# Altium schematic symbol library NodeIoT.SCHLIB: 93 symbols (part 2 of 2)
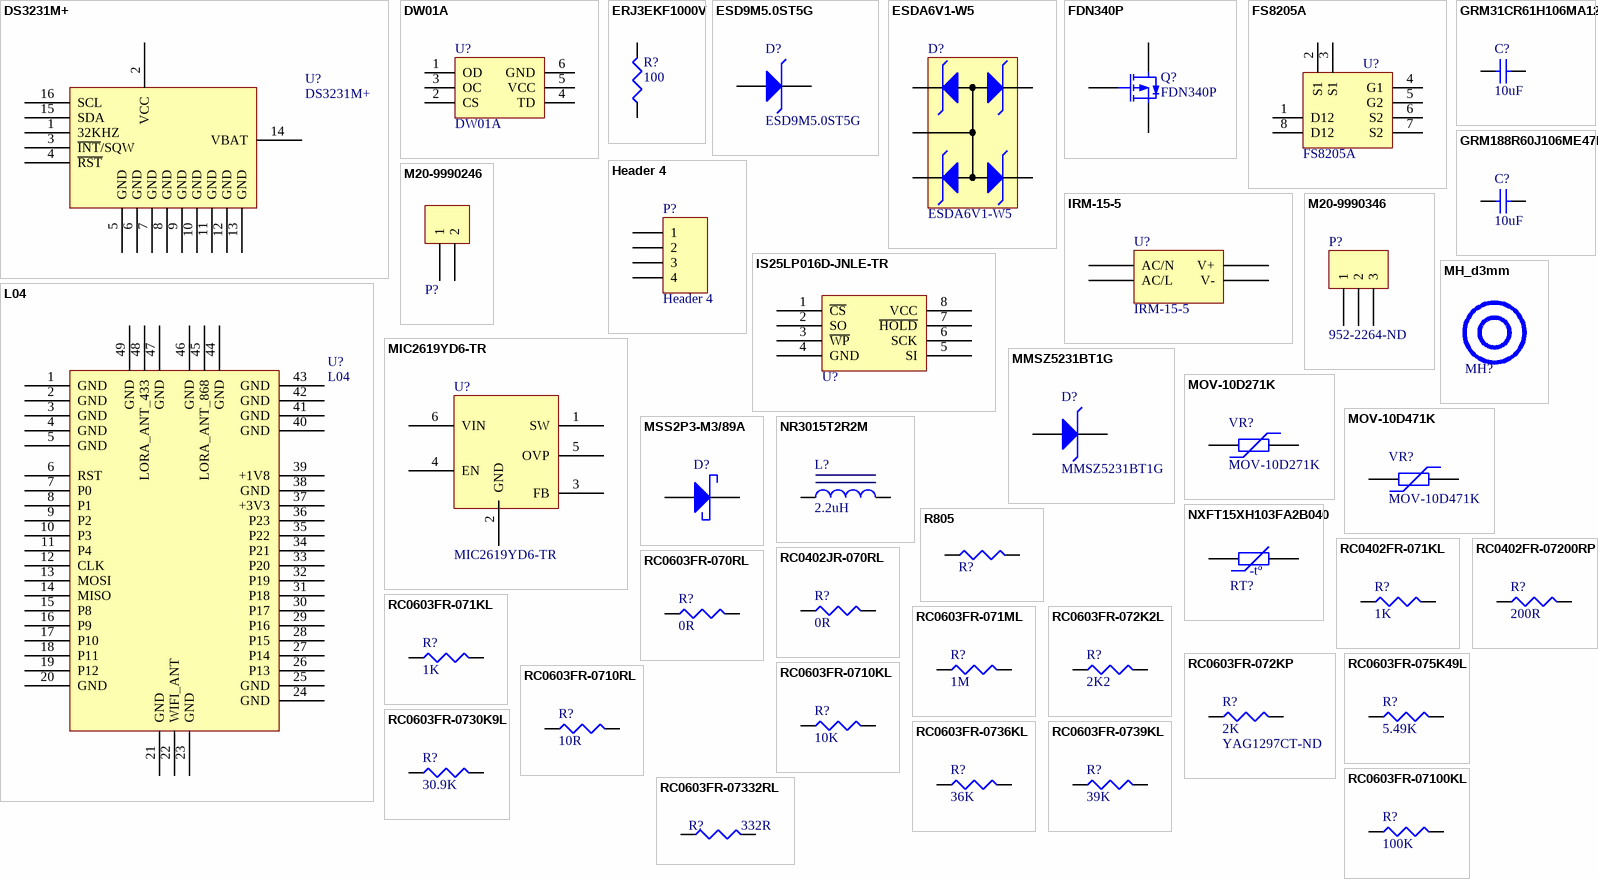
[diagram p3: symbols DS3231M+ to RC0603FR-07332RL]

## ERJ3EKF1000V
designator R?, comment 100
RES SMD 100 OHM 1% 1/10W 0603; Manufacturer: Panasonic; Manufacturer Part Number: ERJ3EKF1000V; Resistance: 100R; Temperature Coefficient: 100ppm/°C; Power Rating: 100mW; Voltage Rating: 75V; Supplier 1: Digi-Key; Stock 1: 5516822; Pricing 1: 1 = 0,100000, 10 = 0,065000, 100 = 0,026400, 1000 = 0,011860, 2500 = 0,010290 (USD); RoHS: Yes; Mount: Surface Mount; Case/Package: 0603; Number of Pins: 2; Weight: 7.1E-05oz; Case Code (Imperial): 0603; Case Code (Metric): 1608; Contact Plating: Tin; Min Operating Temperature: -55°C; Max Operating Temperature: 155°C; Tolerance: 1%; Packaging: Tape and Reel; Composition: Thick Film; Voltage Rating (DC): 75V; Termination: SMD/SMT; Military Standard: Not; Package Quantity: 1; Number of Terminations: 2; Max Power Dissipation: 100mW; Features: Automotive AEC-Q200; Length: 1.6mm; Height: 0.022inch; Width: 0.8mm; Depth: 0.8mm; Radiation Hardening: No; REACH SVHC: No SVHC; Lead Free: Lead Free; ComponentLink1URL: https://datasheet.ciiva.com/34303/1987450-34303565.pdf?src-supplier=Jameco; ComponentLink1Description: https://datasheet.ciiva.com/34303/1987450-34303565.pdf?src-supplier=Jameco; ComponentLink2URL: https://datasheet.ciiva.com/9186/aoa0000ce2-9186725.pdf?src-supplier=Avnet; ComponentLink2Description: https://datasheet.ciiva.com/9186/aoa0000ce2-9186725.pdf?src-supplier=Avnet; ComponentLink3URL: https://datasheet.ciiva.com/16765/70260748-16765766.pdf?src-supplier=Allied+Electronics; ComponentLink3Description: https://datasheet.ciiva.com/16765/70260748-16765766.pdf?src-supplier=Allied+Electronics; ComponentLink4URL: https://datasheet.ciiva.com/46372/1678782-46372726.pdf?src-supplier=Element14; ComponentLink4Description: https://datasheet.ciiva.com/46372/1678782-46372726.pdf?src-supplier=Element14; ComponentLink5URL: https://datasheet.ciiva.com/46372/1678782-46372727.pdf?src-supplier=Element14; ComponentLink5Description: https://datasheet.ciiva.com/46372/1678782-46372727.pdf?src-supplier=Element14; ComponentLink6URL: https://datasheet.ciiva.com/7830/aoa0000ce2-7830728.pdf?src-supplier=Element14; ComponentLink6Description: https://datasheet.ciiva.com/7830/aoa0000ce2-7830728.pdf?src-supplier=Element14; ComponentLink7URL: https://datasheet.ciiva.com/24159/aoa0000ce2-24159753.pdf?src-supplier=Mouser; ComponentLink7Description: https://datasheet.ciiva.com/24159/aoa0000ce2-24159753.pdf?src-supplier=Mouser; ComponentLink8URL: https://datasheet.ciiva.com/30088/aoa0000ce2-30088649.pdf?src-supplier=Onlinecomponents.com; ComponentLink8Description: https://datasheet.ciiva.com/30088/aoa0000ce2-30088649.pdf?src-supplier=Onlinecomponents.com; ComponentLink9URL: https://datasheet.ciiva.com/16762/70260748-16762666.pdf?src-supplier=Allied+Electronics; ComponentLink9Description: https://datasheet.ciiva.com/16762/70260748-16762666.pdf?src-supplier=Allied+Electronics; ComponentLink10URL: https://datasheet.ciiva.com/48530/aoa0000ce2-48530986.pdf?src-supplier=Avnet; ComponentLink10Description: https://datasheet.ciiva.com/48530/aoa0000ce2-48530986.pdf?src-supplier=Avnet; ComponentLink11URL: https://datasheet.ciiva.com/17207/aoa0000ce2-17207983.pdf?src-supplier=Avnet+Europe; ComponentLink11Description: https://datasheet.ciiva.com/17207/aoa0000ce2-17207983.pdf?src-supplier=Avnet+Europe; ComponentLink12URL: https://datasheet.ciiva.com/22667/1678782-22667887.pdf?src-supplier=Element14; ComponentLink12Description: https://datasheet.ciiva.com/22667/1678782-22667887.pdf?src-supplier=Element14; Supplier Part Number 1: P100HDKR-ND
footprint R603
pins: 1, 2

## ESD9M5.0ST5G
designator D?
ESD Suppressor TVS ±15kV Automotive 2-Pin SOD-923 T/R; Manufacturer: ON Semiconductor; Capacitance Value: 2.5pF; Clamping Voltage: 9.8V; Configuration: Single; Direction Type: Uni-Directional; Leakage Current: 1uA; Number of  Elements: 1; Product Depth (mm): 0.6 mm; Product Height (mm): 0.37 mm; Product Length (mm): 0.8 mm; Rad Hardened: No; Reverse Breakdown Voltage: 5.8 V; Reverse Stand-off Voltage: 5 V; Test Current (It): 1 mA; Working Voltage: 5V; Supplier 1: Digi-Key; Supplier Part Number 1: ESD9M5.0ST5GOSCT-ND; Manufacturer Part Number: ESD9M5.0ST5G; Stock 1: 15458; Pricing 1: 1=0.35, 10=0.26, 100=0.147, 500=0.0973, 1000=0.0746 (USD); Clamping Voltage (Max): 9.8V; Leakage Current (Max): 1uA; Mounting: Surface Mount; Mounting Style: Surface Mount; Operating Temp Range: -55C to 150C; Operating Temperature Classification: Military; Operating Temperature Max Deg. C: 150C; Operating Temperature Min Deg. C: -55C; Package / Case: SOD-923; Packaging: Tape and Reel; Pin Count: 2; Polarity: Uni-Directional; Suppressor Type: TVS; Working Voltage (Max): 5V; ComponentLink1URL: https://datasheet.ciiva.com/25958/esd9m5-0s-d-25958450.pdf; ComponentLink1Description: https://datasheet.ciiva.com/25958/esd9m5-0s-d-25958450.pdf; Category: Discrete Semiconductor
footprint SOD-923
pins: 1 A, 2 K

## ESDA6V1-W5
designator D?
TVS DIODE 3VWM SOT3235; Manufacturer: STMicroelectronics; Capacitance Value: 90pF; Configuration: Quad; Leakage Current (Max): 1uA; Direction Type: Uni-Directional; Number of  Elements: 4; Peak Pulse Power Dissipation: 150 W; Reverse Breakdown Voltage: 6.1 V; Reverse Stand-off Voltage: 3 V; Test Current (It): 1 mA; Rad Hardened: No; Product Length (mm): 2.2 mm; Product Depth (mm): 1.35 mm; Product Height (mm): 1 mm; Working Voltage (Max): 3V; Supplier 1: Digi-Key; Supplier Part Number 1: 497-7228-1-ND; Manufacturer Part Number: ESDA6V1-W5; Stock 1: 11893; Pricing 1: 1=0.46, 10=0.346, 100=0.2153, 500=0.1473, 1000=0.1133 (USD); Mounting: Surface Mount; Leakage Current: 1uA; Operating Temp Range: -40C to 125C; Package Type: SOT-323; Operating Temperature Classification: Automotive; Mounting Style: Surface Mount; Operating Temperature Max Deg. C: 125C; Operating Temperature Min Deg. C: -40C; Package / Case: SOT-323; Packaging: Tape and Reel; Pin Count: 5; Polarity: Uni-Directional; Suppressor Type: TVS; Working Voltage: 3V; ComponentLink1URL: https://datasheet.ciiva.com/15143/getdatasheetpartid-134557-15143650.pdf; ComponentLink1Description: https://datasheet.ciiva.com/15143/getdatasheetpartid-134557-15143650.pdf; Category: Discrete Semiconductor
footprint SOT-323-5L
pins: 1, 2, 3, 4, 5

## FDN340P
designator Q?
MOSFET P-CH 20V 2A SSOT3; Manufacturer: Fairchild/ON Semiconductor; FET Type: P-Channel; Current - Continuous Drain (Id) @ 25°C: 2A (Ta); Drive Voltage (Max Rds On,  Min Rds On): 2.5V, 4.5V; Vgs(th) (Max) @ Id: 1.5V @ 250µA; Gate Charge (Qg) (Max) @ Vgs: 10nC @ 4.5V; Input Capacitance (Ciss) (Max) @ Vds: 779pF @ 10V; Vgs (Max): ±8V; Power Dissipation (Max): 500mW (Ta); Rds On (Max) @ Id, Vgs: 70 mOhm @ 2A, 4.5V; Supplier 1: Digi-Key; Supplier Part Number 1: FDN340PCT-ND; Manufacturer Part Number: FDN340P; RoHS: RoHS Compliant; Category: Discrete Semiconductor Products; Stock 1: 497; Pricing 1: 1=0.41, 10=0.331, 100=0.2253, 500=0.16896, 1000=0.12672 (USD); Packaging: Cut Tape (CT); Part Status: Active; Technology: MOSFET (Metal Oxide); Drain to Source Voltage (Vdss): 20V; FET Feature: -; Operating Temperature: -55°C ~ 150°C (TJ); Mounting Type: Surface Mount; Supplier Device Package: SuperSOT-3; Package / Case: TO-236-3, SC-59, SOT-23-3; ComponentLink1URL: https://www.fairchildsemi.com/datasheets/FD/FDN340P.pdf; ComponentLink1Description: https://www.fairchildsemi.com/datasheets/FD/FDN340P.pdf
footprint SOT-23  Mosfet P (SOT-23 (TO-236))
pins: D, G, S

## FS8205A
designator U?
Dual N-Channel Enhancement Mode Power MOSFET; ComponentLink1Description: LCSC; ComponentLink1URL: https://lcsc.com/product-detail/MOSFET_Fortune-Semicon-FS8205A_C16052.html; Manufacturer Part Number: FS8205A
footprint TSOP_8_65 (TSOP, 8-Leads, Body 2,93x4,40mm, Pitch 0,65mm, IPC Medium Density)
pins: 1 D12, 2 S1, 3 S1, 4 G1, 5 G2, 6 S2, 7 S2, 8 D12

## GRM31CR61H106MA12L
designator C?, comment 10uF
CAP CER 10UF 35V X7R 1206; Manufacturer: Taiyo Yuden; Manufacturer Part Number: GMK316AB7106KL-TR; Tolerance: ±10%; Notification: Current market demand for these product types have resulted in fluctuating and extending lead times. Lead times may differ.; Supplier 1: Digi-Key; RoHS: RoHS Compliant; Category: Capacitors; Stock 1: 822030; Pricing 1: 1=0.54, 10=0.38, 100=0.25, 500=0.1852, 1000=0.15742 (USD); Packaging: Cut Tape (CT); Part Status: Active; Voltage - Rated: 35V; Temperature Coefficient: X7R; Operating Temperature: -55°C ~ 125°C; Features: -; Ratings: -; Applications: General Purpose; Mounting Type: Surface Mount, MLCC; Package / Case: 1206 (3216 Metric); Size / Dimension: 0.126" L x 0.063" W (3.20mm x 1.60mm); Height - Seated (Max): -; Thickness (Max): 0.071" (1.80mm); Lead Spacing: -; Lead Style: -; ComponentLink1URL: http://www.yuden.co.jp/productdata/catalog/mlcc06_e.pdf; ComponentLink1Description: http://www.yuden.co.jp/productdata/catalog/mlcc06_e.pdf; Supplier Part Number 1: 587-3007-1-ND
footprint C1206
pins: 1, 2

## GRM188R60J106ME47D
designator C?, comment 10uF
10µF ±20% 6.3V X5R Ceramic Capacitor -55°C ~ 85°C Surface Mount, MLCC 0603 (1608 Metric) 0.063" L x 0.031" W (1.60mm x 0.80mm); Manufacturer: Murata; Manufacturer Part Number: GRM188R60J106ME47D; Capacitance: 10000000 pF; Tolerance: ±10%; Voltage - Rated: 50V; Temperature Coefficient: X7R; Online Catalog: M Series; Other Names: 587-2994-6; Catalog Drawings: xMK Series_1206_1.6; Supplier 1: Digi-Key; Supplier Part Number 1: 490-3896-6-ND; Stock 1: 6409022; Pricing 1: 1=0.17, 10=0.123, 100=0.0578, 500=0.0405, 1000=0.0336 (USD); Standard Package: 1; Category: Capacitors; Family: Ceramic Capacitors; Series: M; Packaging: Digi-Reel®; Mounting Type: Surface Mount, MLCC; Operating Temperature: -55°C ~ 125°C; Applications: General Purpose; Ratings: -; Package / Case: 1206 (3216 Metric); Size / Dimension: 0.126" L x 0.063" W (3.20mm x 1.60mm); Height - Seated (Max): -; Thickness (Max): 0.071" (1.80mm); Lead Spacing: -; Features: -; Lead Style: -; ComponentLink1URL: https://datasheet.ciiva.com/170/umk316ab7475kl-t-ss-170928.pdf; ComponentLink1Description: https://datasheet.ciiva.com/170/umk316ab7475kl-t-ss-170928.pdf; Case Size/Dimension: 0603; Dielectric: X5R; Tolerance (%): ±20 %; Rated Voltage: 6.3 V; Supplier 2: Digi-Key; Supplier Part Number 2: 587-2994-6-ND; Stock 2: 503992; Pricing 2: 1=0.25, 10=0.175, 100=0.0989, 500=0.0698, 1000=0.0611 (USD)
footprint C603
pins: 1, 2

## Header 4
designator P?
Header, 4-Pin; Manufacturer Part Number: M20-9990446; LatestRevisionDate: 17-Jul-2002; LatestRevisionNote: Re-released for DXP Platform.; Publisher: Altium Limited
footprint HDR1X4 (Connector; Header; 4 Position)
signal-integrity model Connector
pins: 1, 2, 3, 4

## IRM-15-5
designator U?  (net tie)
O/P +5V/3A; Manufacturer: Mean Well USA Inc.; Voltage - Input: 85 ~ 264 VAC; Voltage - Output 1: 5V; Current - Output (Max): 3A; Efficiency: 78%; Line Regulation: ±0.5%; Load Regulation: ±1%; Approvals: CB, CE, cURus, TUV; Supplier 1: Digi-Key; Supplier Part Number 1: 1866-3037-ND; Manufacturer Part Number: IRM-15-5; RoHS: RoHS Compliant; Category: Power Supplies - Board Mount; Stock 1: 38; Pricing 1: 1=9.73, 10=9.455, 25=8.8992, 50=8.6212 (USD); Part Status: Active; Type: Enclosed; Voltage - Output 2: -; Voltage - Output 3: -; Voltage - Output 4: -; Applications: ITE (Commercial); Features: DC Input Capable, Universal Input; Operating Temperature: -30°C ~ 70°C (With Derating); Mounting Type: Through Hole; Package / Case: 4-DIP Module; Size / Dimension: 2.06" L x 1.07" W x 0.94" H (52.4mm x 27.2mm x 24.0mm); ComponentLink1URL: http://www.meanwell.com/Upload/PDF/IRM-15/IRM-15-SPEC.PDF; ComponentLink1Description: http://www.meanwell.com/Upload/PDF/IRM-15/IRM-15-SPEC.PDF
footprint IRM-15
pins: AC/L, AC/N, V+, V-

## IS25LP016D-JNLE-TR
designator U?  (value not drawn)
16MB QSPI 8-PIN SOP 150MIL ET; Manufacturer: ISSI, Integrated Silicon Solution Inc; Organization: 2 M x 8; Memory Type: Non-Volatile; Memory Format: FLASH; Memory Size: 16Mb (2M x 8); Write Cycle Time - Word, Page: 800µs; Memory Interface: SPI - Quad I/O, QPI, DTR; Voltage - Supply: 2.3 V ~ 3.6 V; Supplier 1: Digi-Key; Manufacturer Part Number: IS25LP016D-JNLE; RoHS: RoHS Compliant; Category: Integrated Circuits (ICs); Stock 1: 3248; Pricing 1: 1=1.34 (USD); Packaging: Tube; Part Status: Active; Technology: FLASH - NOR; Operating Temperature: -40°C ~ 105°C (TA); Mounting Type: Surface Mount; Package / Case: 8-SOIC (0.154", 3.90mm Width); Supplier Device Package: 8-SOP; ComponentLink1URL: http://www.issi.com/WW/pdf/25LP-WP016D.pdf; ComponentLink1Description: http://www.issi.com/WW/pdf/25LP-WP016D.pdf; Supplier Part Number 1: 706-1583-ND
footprint SOIC-8 150MIL
pins: 1 ~{CS} (power), 2 SO (power), 3 ~{WP} (power), 4 GND (power), 5 SI (power), 6 SCK (power), 7 ~{HOLD} (power), 8 VCC (power)

## L04
designator U?
SOM VERSION OF THE LOPY4; Manufacturer: Pycom Ltd.; Utilized IC / Part: ESP32; Protocol: 802.11b/g/n, Bluetooth v4.0, LoRa, Sigfox; Frequency: 433MHz, 470MHz ~ 510MHz, 868MHz, 915MHz, 2.4GHz; Data Rate: 16Mbps; Power - Output: 20dBm; Serial Interfaces: I²C, I²S, SPI, UART; Voltage - Supply: 3.3 V ~ 5.5 V; Current - Receiving: 15mA; Supplier 1: Digi-Key; Supplier Part Number 1: 1871-1021-1-ND; Manufacturer Part Number: L04; RoHS: RoHS Compliant; Category: RF/IF and RFID; Stock 1: 0; Pricing 1: 1=45.32, 10=42.256, 25=39.1944, 100=36.7448 (USD); Packaging: Cut Tape (CT); Part Status: Active; Modulation: -; Sensitivity: -; Antenna Type: -; Memory Size: -; Current - Transmitting: 15mA; Mounting Type: Surface Mount; Operating Temperature: -; Package / Case: Module; ComponentLink1URL: https://pycom.io/wp-content/uploads/2017/11/L04Specsheet.pdf; ComponentLink1Description: https://pycom.io/wp-content/uploads/2017/11/L04Specsheet.pdf
footprint Lopy04
pins: 1 GND, 2 GND, 3 GND, 4 GND, 5 GND, 6 RST, 7 P0, 8 P1, 9 P2, 10 P3, 11 P4, 12 CLK, 13 MOSI, 14 MISO, 15 P8, 16 P9, 17 P10, 18 P11, 19 P12, 20 GND, 21 GND, 22 WIFI_ANT, 23 GND, 24 GND, 25 GND, 26 P13, 27 P14, 28 P15, 29 P16, 30 P17, 31 P18, 32 P19, 33 P20, 34 P21, 35 P22, 36 P23, 37 +3V3, 38 GND, 39 +1V8, 40 GND, 41 GND, 42 GND, 43 GND, 44 GND, 45 LORA_ANT_868, 46 GND, 47 GND, 48 LORA_ANT_433, 49 GND

## M20-9990246
designator P?  (value not drawn)
Headers & Wire Housings 02 SIL VERTICAL PIN HEADER TIN; Manufacturer: Harwin; Connector Type: Header, Unshrouded, Breakaway; Number of Positions: 2; Number of Positions Loaded: All; Pitch: 0.100" (2.54mm); Dynamic Catalog: M20 Series; Mating Products: 952-2227-ND / - SIL FEMALE CRIMP HOUSING 2POS / 952-1776-ND / - 02-WAY SIL VERT SOCKET L/FREE / 952-1775-ND / - 02-WAY SIL VERT SOCKET L/FREE / 952-1774-ND / - 02-WAY SIL HORIZ SOCKET L/FREE; Other Names: 952-2262; Supplier 1: Digi-Key; Supplier Part Number 1: 952-2262-ND; Manufacturer Part Number: M20-9990246; Stock 1: 34173; Pricing 1: 1=0.11, 10=0.099, 100=0.0609, 500=0.0504, 1000=0.0441, 5000=0.0378, 10000=0.0368 (USD); Standard Package: 1,000; Category: Connectors, Interconnects; Family: Rectangular Connectors - Headers, Male Pins; Series: M20; Contact Type: Male Pin; Number of Rows: 1; Contact Mating Length: 0.240" (6.10mm); Mounting Type: Through Hole; Termination: Solder; Contact Finish: Tin; Color: Black; Packaging: Bulk; ComponentLink1URL: https://datasheet.ciiva.com/8046/315376-8046930.pdf; ComponentLink1Description: https://datasheet.ciiva.com/8046/315376-8046930.pdf
footprint Jumper2
pins: 1, 2

## M20-9990346
designator P?  Supplier Part Number 1: 952-2264-ND  (hidden comment: M20-9990346)
Headers & Wire Housings 03 SIL VERTICAL PIN HEADER TIN; Manufacturer: Harwin Inc.; Connector Type: Header, Cuttable; Pitch - Mating: 0.100" (2.54mm); Number of Positions: 3; Number of Positions Loaded: All; Style: Board to Board or Cable; Shrouding: Unshrouded; Contact Length - Mating: 0.240" (6.10mm); Contact Length - Post: 0.118" (3.00mm); Overall Contact Length: 0.460" (11.68mm); Material Flammability Rating: UL94 V-0; Current Rating: 3A per Contact; Mated Stacking Heights: 10.04mm, 10.64mm, 11.04mm, 16.54mm; Supplier 1: Digi-Key; Manufacturer Part Number: M20-9990346; Stock 1: 19657; Pricing 1: 1=0.15, 10=0.136, 100=0.0841, 500=0.0696, 1000=0.0609, 5000=0.0522, 10000=0.05075 (USD); Contact Material: Brass; Packaging: Bulk; ComponentLink1URL: https://cdn.harwin.com/pdfs/M20-999.pdf; ComponentLink1Description: https://cdn.harwin.com/pdfs/M20-999.pdf; RoHS: RoHS Compliant; Category: Connectors, Interconnects; Part Status: Active; Contact Type: Male Pin; Number of Rows: 1; Row Spacing - Mating: -; Mounting Type: Through Hole; Termination: Solder; Fastening Type: Push-Pull; Insulation Height: 0.100" (2.54mm); Contact Shape: Square; Contact Finish - Mating: Tin; Contact Finish Thickness - Mating: -; Contact Finish - Post: Tin; Insulation Material: Polyamide (PA6T), Nylon 6T; Features: -; Operating Temperature: -40°C ~ 105°C; Ingress Protection: -; Insulation Color: Black; Voltage Rating: -; Contact Finish Thickness - Post: -; Applications: -
footprint Jumper3
pins: 1, 2, 3

## MH_d3mm
designator MH?, comment HOLE  (value not drawn)  (no BOM)
hole diamenter 3 mm mounting hole with 12mm diameter guarding ring
footprint HOLESIZE 3_3mm

## MIC2619YD6-TR
designator U?
IC REG BOOST ADJ 0.35A TSOT23-6; Manufacturer: Microchip Technology; Function: Step-Up; Output Configuration: Positive; Output Type: Adjustable; Number of Outputs: 1; Voltage - Input (Min): 2.8V; Voltage - Input (Max): 6.5V; Voltage - Output (Max): 35V; Current - Output: 350mA (Switch); Frequency - Switching: 1.2MHz; Synchronous Rectifier: No; Supplier 1: Digi-Key; Supplier Part Number 1: 576-3655-1-ND; Manufacturer Part Number: MIC2619YD6-TR; RoHS: RoHS Compliant; Category: Integrated Circuits (ICs); Stock 1: 3378; Pricing 1: 1=0.59, 25=0.4984, 100=0.4452 (USD); Packaging: Cut Tape (CT); Part Status: Active; Topology: Boost; Voltage - Output (Min/Fixed): 2.8V; Operating Temperature: -40°C ~ 125°C (TJ); Mounting Type: Surface Mount; Package / Case: SOT-23-6 Thin, TSOT-23-6; Supplier Device Package: TSOT-23-6; Base Part Number: MIC2619; ComponentLink1URL: http://www.microchip.com/mymicrochip/filehandler.aspx?ddocname=en579977; ComponentLink1Description: http://www.microchip.com/mymicrochip/filehandler.aspx?ddocname=en579977
footprint SOT-23-6
pins: 1 SW, 2 GND, 3 FB, 4 EN, 5 OVP, 6 VIN

## MMSZ5231BT1G
designator D?
DIODE ZENER 5.1V 500MW SOD123; Manufacturer: ON Semiconductor; PCN Design/Specification: Copper Wire 08/Jun/2009; PCN Assembly/Origin: SOD-123 Package Assembly Site Transfer 29/Aug/2014; Tolerance: ±5%; Impedance (Max) (Zzt): 17 Ohm; Current - Reverse Leakage @ Vr: 5µA @ 2V; Voltage - Forward (Vf) (Max) @ If: 900mV @ 10mA; Online Catalog: MMSZ Series; Other Names: MMSZ5231BT1GOSDKR; Supplier 1: Digi-Key; Supplier Part Number 1: MMSZ5231BT1GOSDKR-ND; Manufacturer Part Number: MMSZ5231BT1G; Stock 1: 0; Pricing 1: 1=0.23, 10=0.192, 100=0.1016, 500=0.0668, 1000=0.0454 (USD); Standard Package: 1; Category: Discrete Semiconductor Products; Family: Diodes - Zener - Single; Packaging: Digi-Reel®; Voltage - Zener (Nom) (Vz): 5.1V; Power - Max: 500mW; Operating Temperature: -55°C ~ 150°C; Mounting Type: Surface Mount; Package / Case: SOD-123; Supplier Device Package: SOD-123; ComponentLink1URL: https://datasheet.ciiva.com/23815/1708301-23815376.pdf; ComponentLink1Description: https://datasheet.ciiva.com/23815/1708301-23815376.pdf
footprint SOD-123
pins: 1 A, 2 K

## MOV-10D271K
designator VR?
VARISTOR 270V 2.5KA DISC 10MM; Manufacturer: Bourns Inc.; Energy: 40J; Supplier 1: Digi-Key; Manufacturer Part Number: MOV-10D271K; RoHS: RoHS Compliant; Category: Circuit Protection; Stock 1: 7421; Pricing 1: 1=0.54, 10=0.387, 25=0.3012, 100=0.2279, 250=0.16124, 500=0.129, 1000=0.0989, 2500=0.086, 5000=0.0774 (USD); Packaging: Bulk; Part Status: Active; Operating Temperature: -40°C ~ 105°C (TA); Mounting Type: Through Hole; Package / Case: Disc 10mm; ComponentLink1URL: http://www.bourns.com/docs/Product-Datasheets/MOV10D.pdf; ComponentLink1Description: http://www.bourns.com/docs/Product-Datasheets/MOV10D.pdf; Supplier Part Number 1: MOV-10D271K-ND
footprint MOV 10mm DIsk
pins: 1, 2

## MOV-10D471K
designator VR?
VARISTOR 470V 2.5KA DISC 10MM; Manufacturer: Bourns Inc.; Energy: 70J; Supplier 1: Digi-Key; Manufacturer Part Number: MOV-10D471K; RoHS: RoHS Compliant; Category: Circuit Protection; Stock 1: 3788; Pricing 1: 1=0.47, 10=0.328, 25=0.2696, 100=0.2156, 250=0.1568, 500=0.1274, 1000=0.098, 2500=0.0882, 5000=0.0833 (USD); Packaging: Bulk; Part Status: Active; Operating Temperature: -40°C ~ 105°C (TA); Mounting Type: Through Hole; Package / Case: Disc 10mm; ComponentLink1URL: http://www.bourns.com/docs/Product-Datasheets/MOV10D.pdf; ComponentLink1Description: http://www.bourns.com/docs/Product-Datasheets/MOV10D.pdf; Supplier Part Number 1: MOV-10D471K-ND
footprint MOV 10mm DIsk
pins: 1, 2

## MSS2P3-M3/89A
designator D?  (value not drawn)
DIODE SCHOTTKY 30V 2A MICROSMP; Manufacturer: Vishay Semiconductor Diodes Division; Speed: Fast Recovery =< 500ns, > 200mA (Io); Capacitance @ Vr, F: 65pF @ 4V, 1MHz; Supplier 1: Digi-Key; Supplier Part Number 1: MSS2P3-M3/89AGICT-ND; Manufacturer Part Number: MSS2P3-M3/89A; RoHS: RoHS Compliant; Category: Discrete Semiconductor Products; Stock 1: 296; Pricing 1: 1=0.39, 10=0.288, 25=0.252, 100=0.1631, 250=0.13504, 500=0.10804, 1000=0.08283 (USD); Packaging: Cut Tape (CT); Part Status: Active; Diode Type: Schottky; Current - Average Rectified (Io): 2A; Mounting Type: Surface Mount; Package / Case: MicroSMP; Supplier Device Package: MicroSMP; Operating Temperature - Junction: -55°C ~ 150°C; Base Part Number: MSS2P3; ComponentLink1URL: http://www.vishay.com/docs/89054/mss2p3.pdf; ComponentLink1Description: http://www.vishay.com/docs/89054/mss2p3.pdf
footprint MSS2P3-M3
pins: 1 A, 2 K

## NR3015T2R2M
designator L?, comment 2.2uH
FIXED IND 2.2UH 1.5A 72 MOHM SMD; Manufacturer: Taiyo Yuden; Manufacturer Part Number: NR3015T2R2M; Type: Wirewound; Material - Core: Ferrite; Tolerance: ±20%; Shielding: Shielded; DC Resistance (DCR): 72 mOhm Max; Supplier 1: Digi-Key; Supplier Part Number 1: 587-1648-1-ND; RoHS: RoHS Compliant; Category: Inductors, Coils, Chokes; Stock 1: 222863; Pricing 1: 1=0.35, 10=0.313, 100=0.2151, 500=0.18378, 1000=0.14076 (USD); Packaging: Cut Tape (CT); Part Status: Active; Q @ Freq: -; Ratings: -; Operating Temperature: -25°C ~ 120°C; Mounting Type: Surface Mount; Package / Case: Nonstandard; Supplier Device Package: -; Size / Dimension: 0.118" L x 0.118" W (3.00mm x 3.00mm); Height - Seated (Max): 0.059" (1.50mm); ComponentLink1URL: https://www.yuden.co.jp/productdata/catalog/wound04_e.pdf; ComponentLink1Description: https://www.yuden.co.jp/productdata/catalog/wound04_e.pdf
footprint NR3015
pins: 1, 2

## NXFT15XH103FA2B040
designator RT?  (value not drawn)  (no BOM)
NTC THERMISTOR 10K OHM 1% BEAD; Manufacturer: Murata Electronics North America; B25/50: 3380K; B25/85: 3434K; B25/100: 3455K; Supplier 1: Digi-Key; Supplier Part Number 1: 490-14854-ND; Manufacturer Part Number: NXFT15XH103FA2B040; RoHS: RoHS Compliant; Category: Sensors, Transducers; Stock 1: 1950; Pricing 1: 1=0.91, 5=0.864, 10=0.752, 25=0.6608, 50=0.549, 100=0.4676, 500=0.4066, 1000=0.35578, 5000=0.31512 (USD); Packaging: Bulk; Part Status: Active; Resistance in Ohms @ 25°C: 10k; Resistance Tolerance: ±1%; B Value Tolerance: ±1%; B0/50: -; B25/75: -; Operating Temperature: -40°C ~ 125°C; Length - Lead Wire: -; Mounting Type: Free Hanging; Package / Case: Bead; ComponentLink1URL: https://www.murata.com/~/media/webrenewal/support/library/catalog/products/thermistor/ntc/r44e.ashx; ComponentLink1Description: https://www.murata.com/~/media/webrenewal/support/library/catalog/products/thermistor/ntc/r44e.ashx
footprint Jumper2
pins: 1, 2
text: -tº

## R805
designator R?, comment xxR  (value not drawn)  (no BOM)
General purposo resistor; .pcbChecked: TPO; .schChecked: TPO
footprint R805
pins: 1, 2

## RC0402FR-071KL
designator R?, comment 1K
Thick Film Resistors - SMD 1K OHM 1%; Manufacturer: Yageo; Manufacturer Part Number: RC0402FR-071KL; Power (Watts): 0.063W, 1/16W; Temperature Coefficient: ±100ppm/°C; Supplier 1: Digi-Key; Supplier Part Number 1: 311-1.00KLRCT-ND; RoHS: RoHS Compliant; Category: Resistors; Stock 1: 40781820; Pricing 1: 1=0.1, 10=0.014, 100=0.0056, 1000=0.00253, 2500=0.0022, 5000=0.00181 (USD); Packaging: Cut Tape (CT); Part Status: Active; Tolerance: ±1%; Composition: Thick Film; Features: Moisture Resistant; Operating Temperature: -55°C ~ 155°C; Package / Case: 0402 (1005 Metric); Supplier Device Package: 0402; Size / Dimension: 0.039" L x 0.020" W (1.00mm x 0.50mm); Height - Seated (Max): 0.016" (0.40mm); Failure Rate: -; ComponentLink1URL: http://www.yageo.com/documents/recent/PYu-RC_Group_51_RoHS_L_8.pdf; ComponentLink1Description: http://www.yageo.com/documents/recent/PYu-RC_Group_51_RoHS_L_8.pdf
footprint R402
pins: 1, 2

## RC0402FR-07200RP
designator R?, comment 200R
General purposo resistor; Manufacturer: Yageo; Manufacturer Part Number: RC0402FR-07200RP; .pcbChecked: TPO; Tolerance: ±1%; Power (Watts): 0.063W, 1/16W; Temperature Coefficient: ±150ppm/°C; .schChecked: TPO; Supplier 1: Digi-Key; Supplier Part Number 1: YAG1255CT-ND; RoHS: RoHS Compliant; Category: Resistors; Stock 1: 2292; Pricing 1: 1=0.1, 10=0.036, 100=0.0145, 1000=0.00652, 2500=0.00566, 5000=0.00468 (USD); Packaging: Cut Tape (CT); Part Status: Active; Composition: Thick Film; Features: Moisture Resistant; Operating Temperature: -55°C ~ 155°C; Package / Case: 0402 (1005 Metric); Supplier Device Package: 0402; Size / Dimension: 0.039" L x 0.020" W (1.00mm x 0.50mm); Height - Seated (Max): 0.016" (0.40mm); Failure Rate: -; ComponentLink1URL: http://www.yageo.com/NewPortal/yageodocoutput?fileName=/pdf/R-Chip/PYu-RC_51_RoHS_P_0.pdf; ComponentLink1Description: http://www.yageo.com/NewPortal/yageodocoutput?fileName=/pdf/R-Chip/PYu-RC_51_RoHS_P_0.pdf
footprint R402
pins: 1, 2

## RC0402JR-070RL
designator R?, comment 0R
RES SMD 0 OHM JUMPER 1/16W 0402; Manufacturer: Yageo; Manufacturer Part Number: RC0402JR-070RL; Power (Watts): 0.063W, 1/16W; Supplier 1: Digi-Key; RoHS: RoHS Compliant; Category: Resistors; Stock 1: 10092194; Pricing 1: 1=0.1, 10=0.01, 25=0.0068, 50=0.0052, 100=0.0038, 250=0.00288, 500=0.0023, 1000=0.0017, 5000=0.00122 (USD); Packaging: Cut Tape (CT); Part Status: Active; Tolerance: Jumper; Composition: Thick Film; Features: Moisture Resistant; Temperature Coefficient: -; Operating Temperature: -55°C ~ 155°C; Package / Case: 0402 (1005 Metric); Supplier Device Package: 0402; Size / Dimension: 0.039" L x 0.020" W (1.00mm x 0.50mm); Height - Seated (Max): 0.016" (0.40mm); Failure Rate: -; ComponentLink1URL: http://www.yageo.com/documents/recent/PYu-RC_Group_51_RoHS_L_8.pdf; ComponentLink1Description: http://www.yageo.com/documents/recent/PYu-RC_Group_51_RoHS_L_8.pdf; Supplier Part Number 1: 311-0.0JRCT-ND
footprint R402
pins: 1, 2

## RC0603FR-070RL
designator R?, comment 0R  (no BOM)
RES SMD 0 OHM 1% 1/10W 0603; Manufacturer: Yageo; Manufacturer Part Number: RC0603FR-0710RL; Power (Watts): 0.1W, 1/10W; Temperature Coefficient: ±200ppm/°C; Supplier 1: Digi-Key; RoHS: RoHS Compliant; Category: Resistors; Stock 1: 1542298; Pricing 1: 1=0.1, 10=0.015, 100=0.006, 1000=0.00268, 2500=0.00233 (USD); Packaging: Cut Tape (CT); Part Status: Active; Tolerance: ±1%; Composition: Thick Film; Features: Moisture Resistant; Operating Temperature: -55°C ~ 155°C; Package / Case: 0603 (1608 Metric); Supplier Device Package: 0603; Size / Dimension: 0.063" L x 0.032" W (1.60mm x 0.80mm); Height - Seated (Max): 0.022" (0.55mm); Failure Rate: -; ComponentLink1URL: http://www.yageo.com/documents/recent/PYu-RC_Group_51_RoHS_L_8.pdf; ComponentLink1Description: http://www.yageo.com/documents/recent/PYu-RC_Group_51_RoHS_L_8.pdf; Supplier Part Number 1: 311-10.0HRCT-ND; Supplier 2: Digi-Key; Supplier Part Number 2: 311-0.0HRCT-ND; Stock 2: 386732; Pricing 2: 1=0.1, 10=0.014, 25=0.01, 50=0.0078, 100=0.0057, 250=0.00436, 500=0.00348, 1000=0.00257 (USD)
footprint R603
pins: 1, 2

## RC0603FR-071KL
designator R?, comment 1K
RES SMD 1K OHM 1% 1/10W 0603; Manufacturer: Yageo; Manufacturer Part Number: RC0603FR-071KL; Power (Watts): 0.1W, 1/10W; Temperature Coefficient: ±100ppm/°C; Supplier 1: Digi-Key; RoHS: RoHS Compliant; Category: Resistors; Stock 1: 9927741; Pricing 1: 1=0.1, 10=0.015, 100=0.006, 1000=0.00268, 2500=0.00233 (USD); Packaging: Cut Tape (CT); Part Status: Active; Tolerance: ±1%; Composition: Thick Film; Features: Moisture Resistant; Operating Temperature: -55°C ~ 155°C; Package / Case: 0603 (1608 Metric); Supplier Device Package: 0603; Size / Dimension: 0.063" L x 0.032" W (1.60mm x 0.80mm); Height - Seated (Max): 0.022" (0.55mm); Failure Rate: -; ComponentLink1URL: http://www.yageo.com/documents/recent/PYu-RC_Group_51_RoHS_L_8.pdf; ComponentLink1Description: http://www.yageo.com/documents/recent/PYu-RC_Group_51_RoHS_L_8.pdf; Supplier Part Number 1: 311-1.00KHRCT-ND
footprint R603
pins: 1, 2

## RC0603FR-071ML
designator R?, comment 1M
RES SMD 1M OHM 1% 1/10W 0603; Manufacturer: Yageo; Manufacturer Part Number: RC0603FR-071ML; Power (Watts): 0.1W, 1/10W; Temperature Coefficient: ±100ppm/°C; Supplier 1: Digi-Key; RoHS: RoHS Compliant; Category: Resistors; Stock 1: 2680887; Pricing 1: 1=0.1, 10=0.015, 100=0.006, 1000=0.00268, 2500=0.00233 (USD); Packaging: Digi-Reel®; Part Status: Active; Tolerance: ±1%; Composition: Thick Film; Features: Moisture Resistant; Operating Temperature: -55°C ~ 155°C; Package / Case: 0603 (1608 Metric); Supplier Device Package: 0603; Size / Dimension: 0.063" L x 0.032" W (1.60mm x 0.80mm); Height - Seated (Max): 0.022" (0.55mm); Failure Rate: -; ComponentLink1URL: http://www.yageo.com/documents/recent/PYu-RC_Group_51_RoHS_L_8.pdf; ComponentLink1Description: http://www.yageo.com/documents/recent/PYu-RC_Group_51_RoHS_L_8.pdf; Supplier Part Number 1: 311-1.00MHRDKR-ND
footprint R603
pins: 1, 2

## RC0603FR-072K2L
designator R?, comment 2K2
RES SMD 2.2K OHM 1% 1/10W 0603; Manufacturer: Yageo; Manufacturer Part Number: RC0603FR-072K2L; Power (Watts): 0.1W, 1/10W; Temperature Coefficient: ±100ppm/°C; Supplier 1: Digi-Key; RoHS: RoHS Compliant; Category: Resistors; Stock 1: 1949386; Pricing 1: 1=0.1, 10=0.024, 100=0.0097, 1000=0.00436, 2500=0.00378 (USD); Packaging: Cut Tape (CT); Part Status: Active; Tolerance: ±1%; Composition: Thick Film; Features: Moisture Resistant; Operating Temperature: -55°C ~ 155°C; Package / Case: 0603 (1608 Metric); Supplier Device Package: 0603; Size / Dimension: 0.063" L x 0.032" W (1.60mm x 0.80mm); Height - Seated (Max): 0.022" (0.55mm); Failure Rate: -; ComponentLink1URL: http://www.yageo.com/documents/recent/PYu-RC_Group_51_RoHS_L_9.pdf; ComponentLink1Description: http://www.yageo.com/documents/recent/PYu-RC_Group_51_RoHS_L_9.pdf; Supplier Part Number 1: 311-2.20KHRCT-ND
footprint R603
pins: 1, 2

## RC0603FR-072KP
designator R?, comment 2K  Supplier Part Number 1: YAG1297CT-ND
RES SMD 2K OHM 1% 1/10W 0603; Manufacturer: Yageo; Manufacturer Part Number: RC0603FR-072KP; .pcbChecked: TPO; Power (Watts): 0.1W, 1/10W; Temperature Coefficient: ±150ppm/°C; .schChecked: TPO; Supplier 1: Digi-Key; RoHS: RoHS Compliant; Category: Resistors; Stock 1: 967; Pricing 1: 1=0.1, 10=0.04, 100=0.0161, 1000=0.00725, 2500=0.0063 (USD); Packaging: Cut Tape (CT); Part Status: Active; Tolerance: ±1%; Composition: Thick Film; Features: Moisture Resistant; Operating Temperature: -55°C ~ 155°C; Package / Case: 0603 (1608 Metric); Supplier Device Package: 0603; Size / Dimension: 0.063" L x 0.032" W (1.60mm x 0.80mm); Height - Seated (Max): 0.022" (0.55mm); Failure Rate: -; ComponentLink1URL: http://www.yageo.com/NewPortal/yageodocoutput?fileName=/pdf/R-Chip/PYu-RC_51_RoHS_P_0.pdf; ComponentLink1Description: http://www.yageo.com/NewPortal/yageodocoutput?fileName=/pdf/R-Chip/PYu-RC_51_RoHS_P_0.pdf
footprint R603
pins: 1, 2

## RC0603FR-075K49L
designator R?, comment 5.49K
RES SMD 5.49K OHM 1% 1/10W 0603; Manufacturer: Yageo; Manufacturer Part Number: RC0603FR-075K49L; Power (Watts): 0.1W, 1/10W; Temperature Coefficient: ±100ppm/°C; Supplier 1: Digi-Key; Supplier Part Number 1: 311-5.49KHRCT-ND; RoHS: RoHS Compliant; Category: Resistors; Stock 1: 450015; Pricing 1: 1=0.1, 10=0.015, 100=0.006, 1000=0.00268, 2500=0.00233 (USD); Packaging: Cut Tape (CT); Part Status: Active; Tolerance: ±1%; Composition: Thick Film; Features: Moisture Resistant; Operating Temperature: -55°C ~ 155°C; Package / Case: 0603 (1608 Metric); Supplier Device Package: 0603; Size / Dimension: 0.063" L x 0.032" W (1.60mm x 0.80mm); Height - Seated (Max): 0.022" (0.55mm); Failure Rate: -; ComponentLink1URL: http://www.yageo.com/documents/recent/PYu-RC_Group_51_RoHS_L_8.pdf; ComponentLink1Description: http://www.yageo.com/documents/recent/PYu-RC_Group_51_RoHS_L_8.pdf
footprint R603
pins: 1, 2

## RC0603FR-0710KL
designator R?, comment 10K
RES SMD 10K OHM 1% 1/10W 0603; Manufacturer: Yageo; Manufacturer Part Number: RC0603FR-0710KL; Power (Watts): 0.1W, 1/10W; Temperature Coefficient: ±100ppm/°C; Supplier 1: Digi-Key; Supplier Part Number 1: 311-10.0KHRCT-ND; RoHS: RoHS Compliant; Category: Resistors; Stock 1: 35645659; Pricing 1: 1=0.1, 10=0.015, 100=0.006, 1000=0.00268, 2500=0.00233 (USD); Packaging: Cut Tape (CT); Part Status: Active; Tolerance: ±1%; Composition: Thick Film; Features: Moisture Resistant; Operating Temperature: -55°C ~ 155°C; Package / Case: 0603 (1608 Metric); Supplier Device Package: 0603; Size / Dimension: 0.063" L x 0.032" W (1.60mm x 0.80mm); Height - Seated (Max): 0.022" (0.55mm); Failure Rate: -; ComponentLink1URL: http://www.yageo.com/documents/recent/PYu-RC_Group_51_RoHS_L_9.pdf; ComponentLink1Description: http://www.yageo.com/documents/recent/PYu-RC_Group_51_RoHS_L_9.pdf
footprint R603
pins: 1, 2

## RC0603FR-0710RL
designator R?, comment 10R
RES SMD 10 OHM 1% 1/10W 0603; Manufacturer: Yageo; Manufacturer Part Number: RC0603FR-0710RL; Power (Watts): 0.1W, 1/10W; Temperature Coefficient: ±200ppm/°C; Supplier 1: Digi-Key; RoHS: RoHS Compliant; Category: Resistors; Stock 1: 1542298; Pricing 1: 1=0.1, 10=0.015, 100=0.006, 1000=0.00268, 2500=0.00233 (USD); Packaging: Cut Tape (CT); Part Status: Active; Tolerance: ±1%; Composition: Thick Film; Features: Moisture Resistant; Operating Temperature: -55°C ~ 155°C; Package / Case: 0603 (1608 Metric); Supplier Device Package: 0603; Size / Dimension: 0.063" L x 0.032" W (1.60mm x 0.80mm); Height - Seated (Max): 0.022" (0.55mm); Failure Rate: -; ComponentLink1URL: http://www.yageo.com/documents/recent/PYu-RC_Group_51_RoHS_L_8.pdf; ComponentLink1Description: http://www.yageo.com/documents/recent/PYu-RC_Group_51_RoHS_L_8.pdf; Supplier Part Number 1: 311-10.0HRCT-ND
footprint R603
pins: 1, 2

## RC0603FR-0730K9L
designator R?, comment 30.9K
RES SMD 30.9K OHM 1% 1/10W 0603; Manufacturer: Yageo; Manufacturer Part Number: RC0603FR-0730K9L; Power (Watts): 0.1W, 1/10W; Temperature Coefficient: ±100ppm/°C; Supplier 1: Digi-Key; Supplier Part Number 1: 311-30.9KHRCT-ND; RoHS: RoHS Compliant; Category: Resistors; Stock 1: 640598; Pricing 1: 1=0.1, 10=0.015, 100=0.006, 1000=0.00268, 2500=0.00233 (USD); Packaging: Cut Tape (CT); Part Status: Active; Tolerance: ±1%; Composition: Thick Film; Features: Moisture Resistant; Operating Temperature: -55°C ~ 155°C; Package / Case: 0603 (1608 Metric); Supplier Device Package: 0603; Size / Dimension: 0.063" L x 0.032" W (1.60mm x 0.80mm); Height - Seated (Max): 0.022" (0.55mm); Failure Rate: -; ComponentLink1URL: http://www.yageo.com/documents/recent/PYu-RC_Group_51_RoHS_L_8.pdf; ComponentLink1Description: http://www.yageo.com/documents/recent/PYu-RC_Group_51_RoHS_L_8.pdf
footprint R603
pins: 1, 2

## RC0603FR-0736KL
designator R?, comment 36K
RES SMD 36K OHM 1% 1/10W 0603; Manufacturer: Yageo; Manufacturer Part Number: RC0603FR-0736KL; Power (Watts): 0.1W, 1/10W; Temperature Coefficient: ±100ppm/°C; Supplier 1: Digi-Key; Supplier Part Number 1: 311-36.0KHRCT-ND; RoHS: RoHS Compliant; Category: Resistors; Stock 1: 524950; Pricing 1: 1=0.1, 10=0.015, 100=0.006, 1000=0.00268, 2500=0.00233 (USD); Packaging: Cut Tape (CT); Part Status: Active; Tolerance: ±1%; Composition: Thick Film; Features: Moisture Resistant; Operating Temperature: -55°C ~ 155°C; Package / Case: 0603 (1608 Metric); Supplier Device Package: 0603; Size / Dimension: 0.063" L x 0.032" W (1.60mm x 0.80mm); Height - Seated (Max): 0.022" (0.55mm); Failure Rate: -; ComponentLink1URL: http://www.yageo.com/documents/recent/PYu-RC_Group_51_RoHS_L_8.pdf; ComponentLink1Description: http://www.yageo.com/documents/recent/PYu-RC_Group_51_RoHS_L_8.pdf
footprint R603
pins: 1, 2

## RC0603FR-0739KL
designator R?, comment 39K
RES SMD 39K OHM 1% 1/10W 0603; Manufacturer: Yageo; Manufacturer Part Number: RC0603FR-0739KL; Power (Watts): 0.1W, 1/10W; Temperature Coefficient: ±100ppm/°C; Supplier 1: Digi-Key; Supplier Part Number 1: 311-39.0KHRCT-ND; RoHS: RoHS Compliant; Category: Resistors; Stock 1: 1110005; Pricing 1: 1=0.1, 10=0.015, 100=0.006, 1000=0.00268, 2500=0.00233 (USD); Packaging: Cut Tape (CT); Part Status: Active; Tolerance: ±1%; Composition: Thick Film; Features: Moisture Resistant; Operating Temperature: -55°C ~ 155°C; Package / Case: 0603 (1608 Metric); Supplier Device Package: 0603; Size / Dimension: 0.063" L x 0.032" W (1.60mm x 0.80mm); Height - Seated (Max): 0.022" (0.55mm); Failure Rate: -; ComponentLink1URL: http://www.yageo.com/documents/recent/PYu-RC_Group_51_RoHS_L_8.pdf; ComponentLink1Description: http://www.yageo.com/documents/recent/PYu-RC_Group_51_RoHS_L_8.pdf
footprint R603
pins: 1, 2

## RC0603FR-07100KL
designator R?, comment 100K
RES SMD 100K OHM 1% 1/10W 0603; Manufacturer: Yageo; Manufacturer Part Number: RC0603FR-07100KL; Power (Watts): 0.1W, 1/10W; Temperature Coefficient: ±100ppm/°C; Supplier 1: Digi-Key; Supplier Part Number 1: 311-100KHRCT-ND; RoHS: RoHS Compliant; Category: Resistors; Stock 1: 15364276; Pricing 1: 1=0.1, 10=0.015, 100=0.006, 1000=0.00268, 2500=0.00233 (USD); Packaging: Cut Tape (CT); Part Status: Active; Tolerance: ±1%; Composition: Thick Film; Features: Moisture Resistant; Operating Temperature: -55°C ~ 155°C; Package / Case: 0603 (1608 Metric); Supplier Device Package: 0603; Size / Dimension: 0.063" L x 0.032" W (1.60mm x 0.80mm); Height - Seated (Max): 0.022" (0.55mm); Failure Rate: -; ComponentLink1URL: http://www.yageo.com/documents/recent/PYu-RC_Group_51_RoHS_L_8.pdf; ComponentLink1Description: http://www.yageo.com/documents/recent/PYu-RC_Group_51_RoHS_L_8.pdf
footprint R603
pins: 1, 2

## RC0603FR-07332RL
designator R?, comment 332R
RES SMD 332 OHM 1% 1/10W 0603; Manufacturer: Yageo; Manufacturer Part Number: RC0603FR-07332RL; Power (Watts): 0.1W, 1/10W; Temperature Coefficient: ±100ppm/°C; Supplier 1: Digi-Key; Supplier Part Number 1: 311-332HRCT-ND; RoHS: RoHS Compliant; Category: Resistors; Stock 1: 555021; Pricing 1: 1=0.1, 10=0.015, 100=0.006, 1000=0.00268, 2500=0.00233 (USD); Packaging: Cut Tape (CT); Part Status: Active; Tolerance: ±1%; Composition: Thick Film; Features: Moisture Resistant; Operating Temperature: -55°C ~ 155°C; Package / Case: 0603 (1608 Metric); Supplier Device Package: 0603; Size / Dimension: 0.063" L x 0.032" W (1.60mm x 0.80mm); Height - Seated (Max): 0.022" (0.55mm); Failure Rate: -; ComponentLink1URL: http://www.yageo.com/documents/recent/PYu-RC_Group_51_RoHS_L_8.pdf; ComponentLink1Description: http://www.yageo.com/documents/recent/PYu-RC_Group_51_RoHS_L_8.pdf
footprint R603
pins: 1, 2

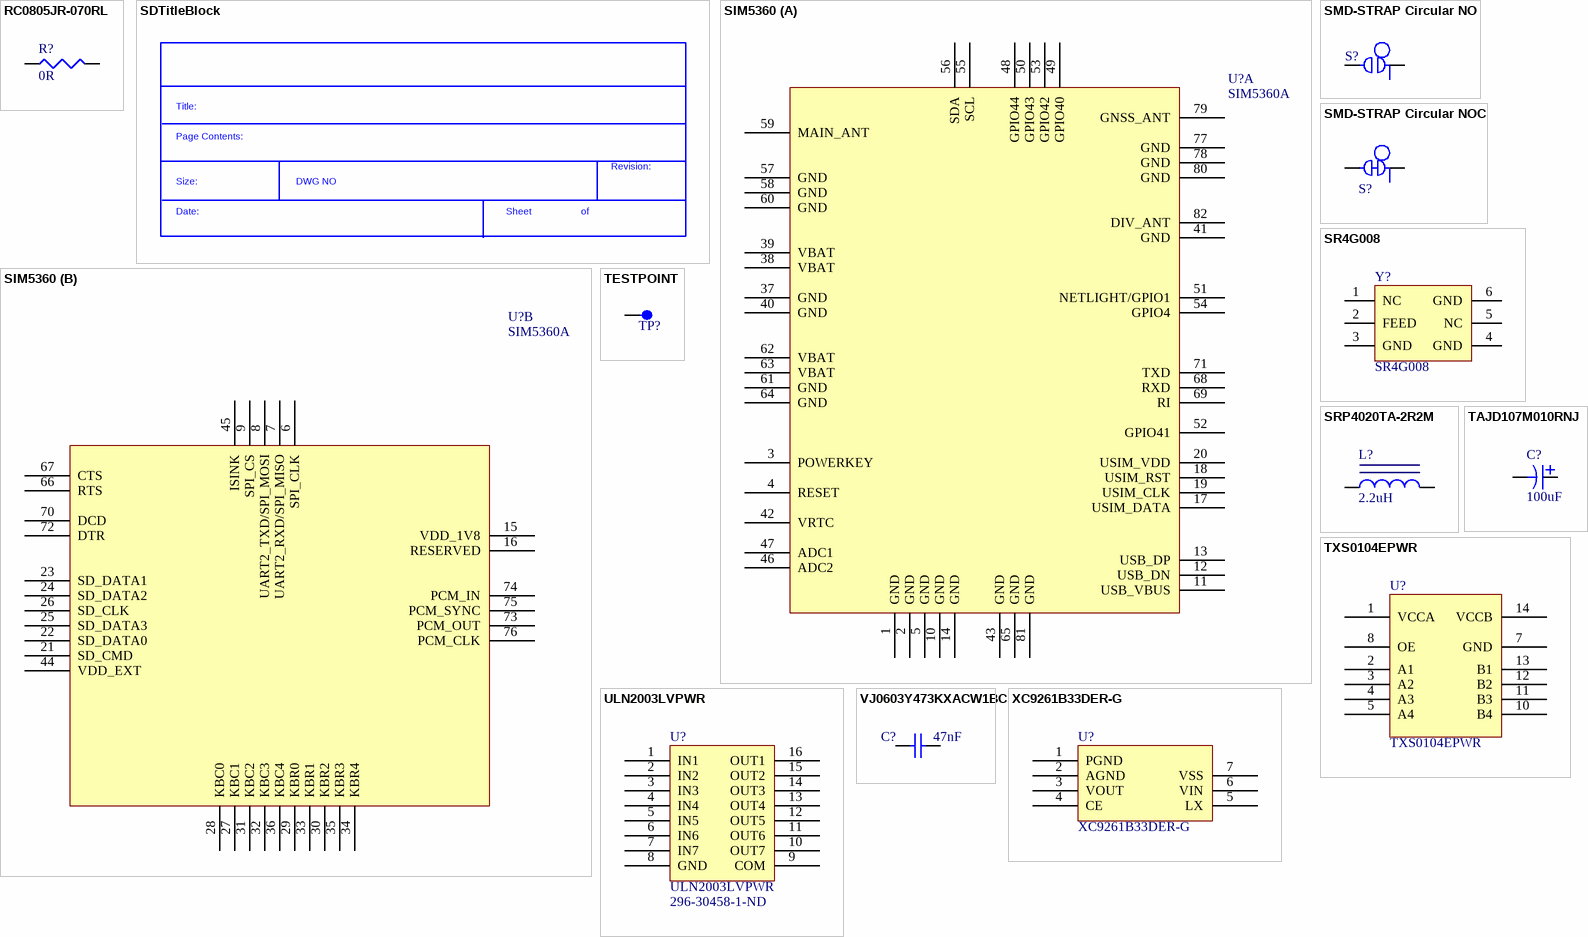
[diagram p2: symbols RC0805JR-070RL to XC9261B33DER-G]

## RC0805JR-070RL
designator R?, comment 0R
RES SMD 0 OHM JUMPER 1/8W 0805; Manufacturer: Yageo; Manufacturer Part Number: RC0805JR-070RL; Power (Watts): 0.125W, 1/8W; Supplier 1: Digi-Key; Supplier Part Number 1: 311-0.0ARCT-ND; RoHS: RoHS Compliant; Category: Resistors; Stock 1: 1018873; Pricing 1: 1=0.1, 10=0.018, 25=0.0128, 50=0.0096, 100=0.0071, 250=0.00544, 500=0.00436, 1000=0.00321 (USD); Packaging: Cut Tape (CT); Part Status: Active; Tolerance: Jumper; Composition: Thick Film; Features: Moisture Resistant; Temperature Coefficient: -; Operating Temperature: -55°C ~ 155°C; Package / Case: 0805 (2012 Metric); Supplier Device Package: 0805; Size / Dimension: 0.079" L x 0.049" W (2.00mm x 1.25mm); Height - Seated (Max): 0.024" (0.60mm); Failure Rate: -; ComponentLink1URL: http://www.yageo.com/documents/recent/PYu-RC_Group_51_RoHS_L_8.pdf; ComponentLink1Description: http://www.yageo.com/documents/recent/PYu-RC_Group_51_RoHS_L_8.pdf
footprint R805
pins: 1, 2

## SDTitleBlock
designator *?  (value not drawn)  (graphical)
text: Title:; Page Contents:; Revision:; Size:; DWG NO; Date:; Sheet; of

## SIM5360
designator U?, comment SIM5360A
SIMCOM SIM5360 module; Manufacturer Part Number: SIM5360A
footprint SIM5360
part A pins: 1 GND, 2 GND, 3 POWERKEY, 4 RESET, 5 GND, 10 GND, 11 USB_VBUS, 12 USB_DN, 13 USB_DP, 14 GND, 17 USIM_DATA, 18 USIM_RST, 19 USIM_CLK, 20 USIM_VDD, 37 GND, 38 VBAT, 39 VBAT, 40 GND, 41 GND, 42 VRTC, 43 GND, 46 ADC2, 47 ADC1, 48 GPIO44, 49 GPIO40, 50 GPIO43, 51 NETLIGHT/GPIO1, 52 GPIO41, 53 GPIO42, 54 GPIO4, 55 SCL, 56 SDA, 57 GND, 58 GND, 59 MAIN_ANT, 60 GND, 61 GND, 62 VBAT, 63 VBAT, 64 GND, 65 GND, 68 RXD, 69 RI, 71 TXD, 77 GND, 78 GND, 79 GNSS_ANT, 80 GND, 81 GND, 82 DIV_ANT
part B pins: 6 SPI_CLK, 7 UART2_RXD/SPI_MISO, 8 UART2_TXD/SPI_MOSI, 9 SPI_CS, 15 VDD_1V8, 16 RESERVED, 21 SD_CMD, 22 SD_DATA0, 23 SD_DATA1, 24 SD_DATA2, 25 SD_DATA3, 26 SD_CLK, 27 KBC1, 28 KBC0, 29 KBR0, 30 KBR2, 31 KBC2, 32 KBC3, 33 KBR1, 34 KBR4, 35 KBR3, 36 KBC4, 44 VDD_EXT, 45 ISINK, 66 RTS, 67 CTS, 70 DCD, 72 DTR, 73 PCM_OUT, 74 PCM_IN, 75 PCM_SYNC, 76 PCM_CLK

## SMD-STRAP Circular NO
designator S?  (value not drawn)  (net tie, no BOM)
Default open SMD circular strap; PartGroup: Mechanical devices,PCB implemented components; Value: SMD-STRAP_0603_CLOSED; Height: 0
footprint SMD_STRAFT  CIRCULAR NO
pins: 1, 2

## SMD-STRAP Circular NOC
designator S?, comment SMD-STRAP CIRCULAR NC  (value not drawn)
Default closed SMD circular strap; PartGroup: Mechanical devices,PCB implemented components; Value: SMD-STRAP Circular _CLOSED; .Creator: TPO; Height: 0
footprint SMD_STRAFT  CIRCULAR NC
pins: 1, 2

## SR4G008
designator Y?
RF ANT 1.561GHZ/1.575GHZ CHIP; Manufacturer: Antenova; Number of Bands: 1; Return Loss: -12dB; Supplier 1: Digi-Key; Manufacturer Part Number: SR4G008; Stock 1: 5105; Pricing 1: 1 = 3,08000, 10 = 2,77800, 25 = 2,48080, 100 = 2,23260, 250 = 1,98452, 500 = 1,73644 (USD); RoHS: Yes; Mount: Surface Mount; Packaging: Tape and Reel; Termination: Solder; Height: 0.015inch; ComponentLink1URL: http://www.antenova-m2m.com/wp-content/uploads/2015/11/Sinica-GNSS-SR4G008-PS-1.1.pdf?src-supplier=Digi-Key; ComponentLink1Description: http://www.antenova-m2m.com/wp-content/uploads/2015/11/Sinica-GNSS-SR4G008-PS-1.1.pdf?src-supplier=Digi-Key; Supplier Part Number 1: 627-1063-1-ND
footprint SR4G008 (RF ANT 1.561GHZ/1.575GHZ CHIP)
pins: 1 NC, 2 FEED, 3 GND, 4 GND, 5 NC, 6 GND

## SRP4020TA-2R2M
designator L?, comment 2.2uH
FIXED IND 2.2UH 4A 61 MOHM SMD; Manufacturer: Bourns Inc.; Manufacturer Part Number: SRP4020TA-2R2M; Type: Wirewound; Material - Core: Carbonyl Powder; Tolerance: ±20%; Shielding: Shielded; DC Resistance (DCR): 61 mOhm Max; Q @ Freq: 10 @ 100kHz; Supplier 1: Digi-Key; Supplier Part Number 1: SRP4020TA-2R2MCT-ND; RoHS: RoHS Compliant; Category: Inductors, Coils, Chokes; Stock 1: 11836; Pricing 1: 1=1.34, 10=1.245, 100=0.8999, 500=0.68932, 1000=0.61272 (USD); Packaging: Cut Tape (CT); Part Status: Active; Ratings: AEC-Q200; Operating Temperature: -40°C ~ 150°C; Mounting Type: Surface Mount; Package / Case: 2-SMD; Supplier Device Package: 2-SMD; Size / Dimension: 0.175" L x 0.160" W (4.45mm x 4.06mm); Height - Seated (Max): 0.079" (2.00mm); ComponentLink1URL: http://www.bourns.com/docs/Product-Datasheets/SRP4020TA.pdf; ComponentLink1Description: http://www.bourns.com/docs/Product-Datasheets/SRP4020TA.pdf
footprint SRP4020TA (Inductor)
pins: 1, 2

## TAJD107M010RNJ
designator C?, comment 100uF
CAP TANT 100UF 10V 20% 2917; Manufacturer: AVX Corporation; Manufacturer Part Number: TAJD107M010RNJ; Manufacturer Size Code: D; ESR (Equivalent Series Resistance): 700 mOhm; Type: Molded; Notification: Current market demand for these product types have resulted in fluctuating and extending lead times. Lead times may differ.; Supplier 1: Digi-Key; Supplier Part Number 1: 478-3918-1-ND; Stock 1: 19702; Pricing 1: 1=0.83, 10=0.609, 100=0.4173 (USD); Category: Capacitors; Packaging: Cut Tape (CT); Tolerance: ±20%; Operating Temperature: -55°C ~ 125°C; Mounting Type: Surface Mount; Package / Case: 2917 (7343 Metric); Size / Dimension: 0.287" L x 0.169" W (7.30mm x 4.30mm); Height - Seated (Max): 0.122" (3.10mm); Lead Spacing: -; Features: General Purpose; Lifetime @ Temp.: -; ComponentLink1URL: http://datasheets.avx.com/TAJ.pdf; ComponentLink1Description: http://datasheets.avx.com/TAJ.pdf; Failure Rate: -; RoHS: RoHS Compliant; Part Status: Active
footprint C2917 (Tantalun D-Case)
pins: 1, 2

## TESTPOINT
designator TP?  (value not drawn)  (no BOM)
Single SMD testpad; PartGroup: Mechanical devices,Connectors,Test points; AN: A08-0004; Height: 0
footprint TestPoint_1.27 (Footprint not found)
pins: 1

## TXS0104EPWR
designator U?
IC 4BIT NON-INV TRANSLTR 14TSSOP; Manufacturer: Texas Instruments; Logic Function: Translator, Bidirectional, Open Drain; Number of Bits: 4; Input Type: Voltage; Data Rate: 24Mbps; Number of Outputs/Channel: 1; Differential - Input:Output: No/No; Propagation Delay (Max): 4.6ns; Voltage - Supply: 1.65 V ~ 3.6 V, 2.3 V ~ 5.5 V; Dynamic Catalog: TXS01xx; Other Names: 296-20697-1; Card Type: Micro SIM; Number of Positions: 6; Connector Type: Connector and Ejector; Insertion, Removal Method: Hinged Lid; Supplier 1: Digi-Key; Supplier Part Number 1: 296-20697-1-ND; Manufacturer Part Number: TXS0104EPWR; Stock 1: 29015; Pricing 1: 1=1.38, 10=1.231, 100=0.9594, 500=0.7926, 1000=0.6257 (USD); Standard Package: 1; Category: Integrated Circuits (ICs); Family: Logic - Translators; Series: -; Output Type: Voltage; Number of Channels: 4; Operating Temperature: -40°C ~ 85°C; Package / Case: 14-TSSOP (0.173", 4.40mm Width); Supplier Device Package: 14-TSSOP; Packaging: Cut Tape (CT); ComponentLink1URL: https://datasheet.ciiva.com/1899/txs0104e-1899556.pdf; ComponentLink1Description: https://datasheet.ciiva.com/1899/txs0104e-1899556.pdf; Supplier 2: Digi-Key; RoHS: RoHS Compliant; Stock 2: 37432; Pricing 2: 1=1.51, 10=1.366, 25=1.2824, 50=1.2266, 100=1.1709, 250=1.05944, 500=0.97578 (USD); Part Status: Active; Ejector Side: -; Mounting Type: Surface Mount, Right Angle; Features: -; Height Above Board: 0.055" (1.40mm); Mounting Feature: Normal, Standard - Top; Contact Finish: Gold; Contact Finish Thickness: 15µin (0.38µm); ComponentLink2URL: http://www.molex.com/pdm_docs/sd/788000001_sd.pdf; ComponentLink2Description: http://www.molex.com/pdm_docs/sd/788000001_sd.pdf; Supplier Part Number 2: WM9786CT-ND
footprint TSSOP-14
pins: 1 VCCA, 2 A1, 3 A2, 4 A3, 5 A4, 6 NC hidden, 7 GND, 8 OE, 9 NC hidden, 10 B4, 11 B3, 12 B2, 13 B1, 14 VCCB

## ULN2003LVPWR
designator U?  Supplier Part Number 1: 296-30458-1-ND
Darlington Transistors Low Pwr 3.3V & 5V Relay Driver; Manufacturer: Texas Instruments; Transistor Type: 7 NPN Darlington; Current - Collector (Ic) (Max): 500mA; Voltage - Collector Emitter Breakdown (Max): 50V; Vce Saturation (Max) @ Ib, Ic: 1.6V @ 500µA, 350mA; Current - Collector Cutoff (Max): 50µA; Supplier 1: Digi-Key; Manufacturer Part Number: ULN2003LVPWR; Stock 1: 11687; Pricing 1: 1=0.69, 10=0.61, 100=0.4679, 500=0.36988, 1000=0.2959 (USD); ComponentLink1URL: http://www.ti.com/lit/ds/symlink/uln2003lv.pdf; ComponentLink1Description: http://www.ti.com/lit/ds/symlink/uln2003lv.pdf; RoHS: RoHS Compliant; Category: Discrete Semiconductor Products; Packaging: Cut Tape (CT); Part Status: Active; DC Current Gain (hFE) (Min) @ Ic, Vce: -; Power - Max: -; Frequency - Transition: -; Operating Temperature: -40°C ~ 85°C (TA); Package / Case: 16-TSSOP (0.173", 4.40mm Width); Supplier Device Package: 16-TSSOP; Base Part Number: ULN2003LV
footprint TSSOP-16
pins: 1 IN1, 2 IN2, 3 IN3, 4 IN4, 5 IN5, 6 IN6, 7 IN7, 8 GND, 9 COM, 10 OUT7, 11 OUT6, 12 OUT5, 13 OUT4, 14 OUT3, 15 OUT2, 16 OUT1

## VJ0603Y473KXACW1BC
designator C?, comment 47nF
CAP CER 0.047UF 50V X7R 0603; Manufacturer: Vishay Vitramon; Manufacturer Part Number: VJ0603Y473KXACW1BC; Tolerance: ±10%; Notification: Current market demand for these product types have resulted in fluctuating and extending lead times. Lead times may differ.; Supplier 1: Digi-Key; Supplier Part Number 1: 720-1697-1-ND; RoHS: RoHS Compliant; Category: Capacitors; Stock 1: 4000; Pricing 1: 1=0.1, 10=0.062, 100=0.0275, 500=0.01964, 1000=0.01543 (USD); Packaging: Cut Tape (CT); Part Status: Active; Voltage - Rated: 50V; Temperature Coefficient: X7R; Operating Temperature: -55°C ~ 125°C; Features: -; Ratings: -; Applications: General Purpose; Mounting Type: Surface Mount, MLCC; Package / Case: 0603 (1608 Metric); Size / Dimension: 0.063" L x 0.032" W (1.60mm x 0.80mm); Height - Seated (Max): -; Thickness (Max): 0.037" (0.95mm); Lead Spacing: -; Lead Style: -; ComponentLink1URL: https://www.vishay.com/docs/28548/vjw1bcbascomseries.pdf; ComponentLink1Description: https://www.vishay.com/docs/28548/vjw1bcbascomseries.pdf; Value: 47nF; Failure Rate: -
footprint C603
pins: 1, 2

## XC9261B33DER-G
designator U?
IC REG BUCK 3.3V 1.5A SYNC 6-USP; Manufacturer Part Number: XC9261B33DER-G
footprint SON50P180X60_HS-7N (SON, 6-Leads, Body 2,00x1,80mm, Pitch 0,50mm, Thermal Pad 1,63x0,80mm, IPC Medium Density)
pins: 1 PGND, 2 AGND, 3 VOUT, 4 CE, 5 LX, 6 VIN, 7 VSS